# Altium footprint library PTB01432010BPA103.PcbLib: 1 footprints
Each footprint in its own frame and in the unit in brackets; x right, y up, seen from the top. Pads: shape width x height; smd on the part's side, far side on the other; paste and mask are expansions set on the pad; w line width, h text height; cw(c..) or ccw(c..) is an arc to the next point about the centre after c.
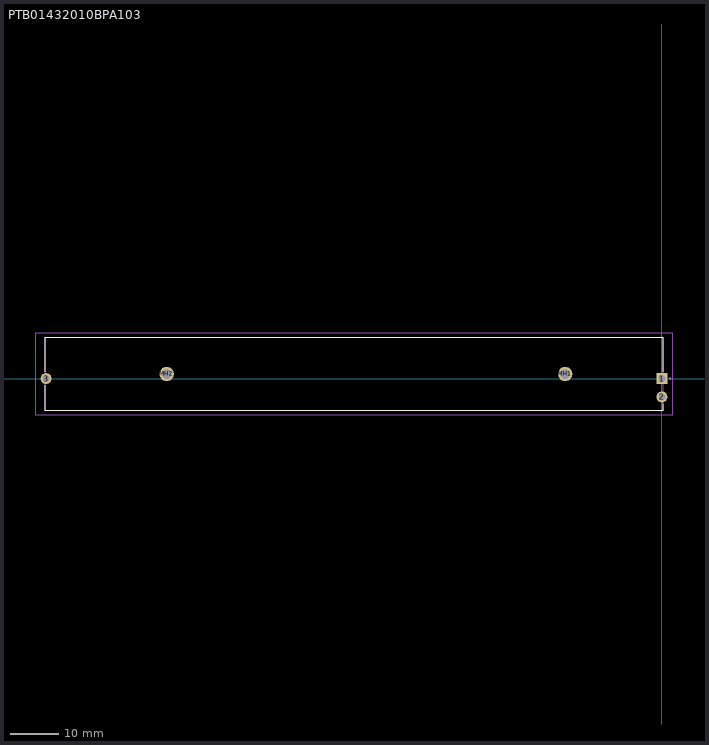
[diagram p0: the footprint, top view; thin cyan lines are the x and y axes]

## PTB01432010BPA103 [mm]
pads (5):
  rect 2.25x2.25 hole 1.5: 1(0,0)
  round 2.25 hole 1.5: 2(0,-3.8) 3(-127.5,0)
  round 3 hole 2: MH1(-20.05,0.95) MH2(-102.55,0.95)
Top Overlay:
  lines w0.1: 1.6,0 1.6,0 ; 1.6,0 ccw(c1.65,0) 1.7,0 ; 1.6,0 cw(c1.65,0) 1.7,0 ; 1.7,0 1.7,0
  lines w0.2: -127.75,-1.4 -127.75,-6.55 0.25,-6.6 0.25,-5.2 ; -127.75,1.4 -127.75,8.45 0.25,8.45 0.25,1.4
Mechanical 15:
  lines w0.1: -127.75,-6.55 0.25,-6.55 0.25,8.45 -127.75,8.45 -127.75,-6.55
Mechanical 20:
  lines w0.1: -129.625,-7.55 2.125,-7.55 2.125,9.45 -129.625,9.45 -129.625,-7.55